# Altium footprint library D 电感.PcbLib: 18 footprints (part 1 of 2)
Each footprint in its own frame and in the unit in brackets; x right, y up, seen from the top. Pads: shape width x height; smd on the part's side, far side on the other; paste and mask are expansions set on the pad; w line width, h text height; cw(c..) or ccw(c..) is an arc to the next point about the centre after c.
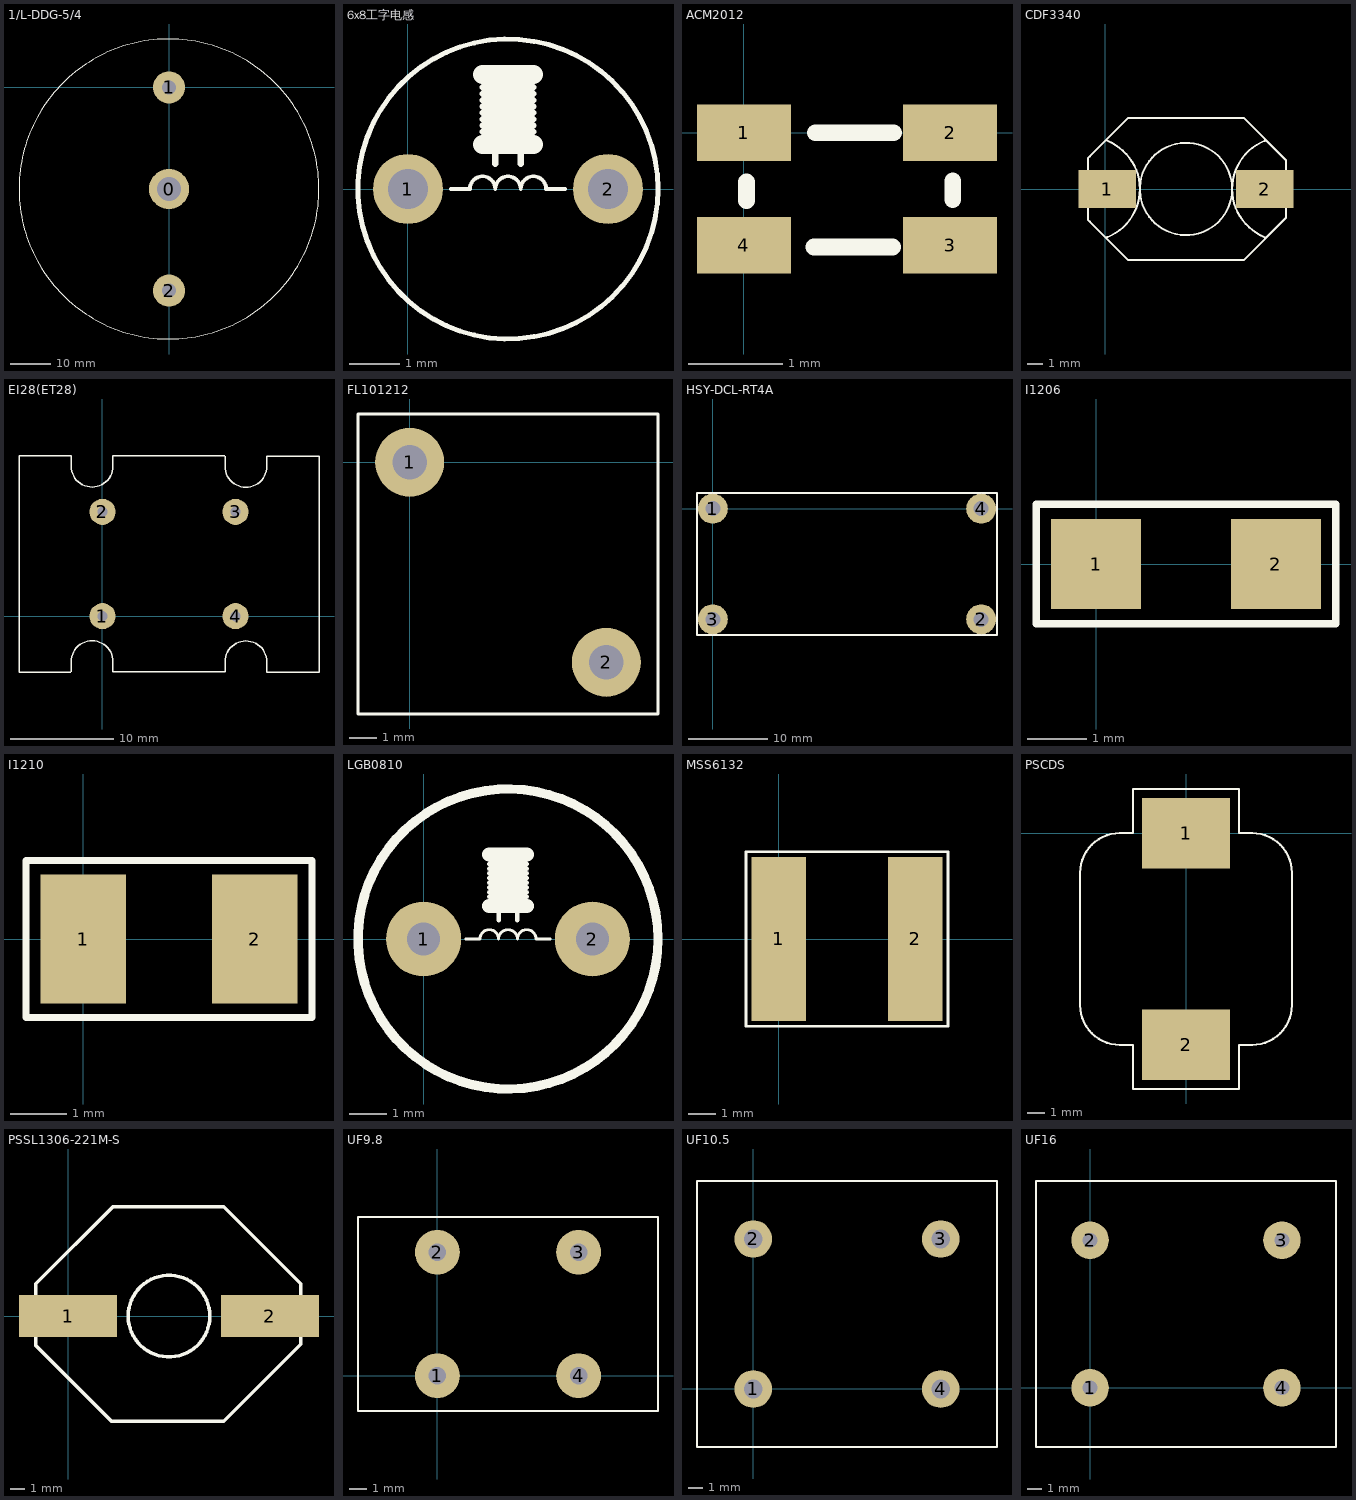
[diagram p0: the footprints below, top view; thin cyan lines are the x and y axes]

## 1/L-DDG-5/4 [mm] "4MH/5A"
pads (3):
  round 10 hole 6: 0(0,-25.4)
  round 8 hole 3.5: 1(0,0) 2(0,-50.8)
Top Overlay:
  circle w0.254: c0,-25.4 r37.5

## 6x8工字电感 [mm]
height 8
pads (2):
  round 1.4 hole 0.8: 1(0,0) 2(4,0)
Top Overlay:
  circle w0.1: c2,0 r3
  lines w0.076: 0.857,0 1.238,0 cw(c1.492,0) 1.746,0 cw(c2,0) 2.254,0 cw(c2.508,0) 2.762,0 3.143,0
  lines w0.127: 1.492,1.143 2.508,1.143 ; 1.492,1.27 2.508,1.27 ; 1.492,1.397 2.508,1.397 ; 1.492,1.524 2.508,1.524 ; 1.492,1.651 2.508,1.651 ; 1.492,1.778 2.508,1.778 ; 1.492,1.905 2.508,1.905 ; 1.492,2.032 2.508,2.032 ; 1.746,0.508 1.746,0.889 ; 2.254,0.508 2.254,0.889
  lines w0.381: 1.492,0.889 2.508,0.889 ; 1.492,2.286 2.508,2.286 ; 2,0.889 2,2.286

## ACM2012 [mm]
pads (4):
  rect 1x0.6 smd: 1(0,0) 2(2.2,0) 3(2.2,-1.2) 4(0,-1.2)
Top Overlay:
  lines w0.178: 0.027,-0.727 0.027,-0.523 ; 0.746,-1.219 1.584,-1.219 ; 0.762,0 1.6,0 ; 2.227,-0.714 2.227,-0.511

## CDF3340 [mm]
pads (2):
  rect 3.8x2.54 smd: 1(0.127,0) 2(10.541,0)
Top Overlay:
  circle w0.127: c5.334,0 r3.048
  lines w0.127: -1.143,-1.524 -1.143,1.651 ; -1.143,-1.397 -1.143,-2.032 -1.016,-2.159 1.524,-4.699 9.144,-4.699 11.938,-1.905 11.938,-1.524 11.938,1.524 11.938,1.905 9.144,4.699 1.524,4.699 -1.016,2.159 ; -1.143,1.524 -1.143,2.032 -0.762,2.413 ; 0.107,3.193 cw(c-1.143,0) 0.13,-3.184 ; 10.538,3.184 ccw(c11.811,0) 10.561,-3.193

## EI28(ET28) [mm]
pads (4):
  round 2.54 hole 1: 1(0,0) 2(0,10.16) 3(12.954,10.16) 4(12.954,0)
Top Overlay:
  lines w0.127: -3.074,-5.461 -8.128,-5.461 -8.128,15.621 -3.048,15.621 ; -3.048,-5.435 -3.048,-4.419 cw(c-1.016,-4.419) 1.016,-4.419 1.016,-5.435 11.912,-5.435 11.938,-5.408 11.938,-4.445 cw(c13.97,-4.445) 16.002,-4.445 16.002,-5.461 21.082,-5.461 21.082,15.568 21.056,15.595 16.002,15.595 ; 11.912,15.621 1.016,15.621 ; -3.048,14.605 ccw(c-1.016,14.605) 1.016,14.605 ; -3.048,14.605 -3.048,15.621 ; -3.048,14.605 -3.048,15.621 ; 1.016,14.605 1.016,15.621 ; 1.016,14.605 1.016,15.621 ; 11.938,14.579 ccw(c13.97,14.579) 16.002,14.579 ; 11.938,14.579 11.938,15.595 11.938,14.579 ; 16.002,14.579 16.002,15.595 ; 16.002,14.579 16.002,15.595

## FL101212 [mil] "适用于直插电感脚间距10mm，长12mm，宽12mm"
pads (2):
  round 100 hole 50: 1(0,0) 2(285,-290)
Top Overlay:
  lines w5: -75,68.07 -75,-365 358.07,-365 ; -75,70 360,70 360,-365

## HSY-DCL-RT4A [mm]
height 42
pads (4):
  round 3.8 hole 1.9: 1(0,0) 2(34,-14) 3(0,-14) 4(34,0)
Top Overlay:
  lines w0.254: -2,-16 36,-16 36,2 -2,2 -2,-16

## I1206 [mil]
pads (2):
  rect 60x60 smd: 1(0,0) 2(120,0)
Top Overlay:
  lines w5: -40,-40 160,-40 160,40 -40,40 -40,-40

## I1210 [mil]
pads (2):
  rect 60x90 smd: 1(0,0) 2(120,0)
Top Overlay:
  lines w5: -40,-55 160,-55 160,55 -40,55 -40,-55

## LGB0810 [mil]
pads (2):
  round 80 hole 35: 1(0,0) 2(180,0)
Top Overlay:
  circle w10: c90,0 r160
  lines w3: 45,0 60,0 cw(c70,0) 80,0 cw(c90,0) 100,0 cw(c110,0) 120,0 135,0
  lines w5: 70,45 110,45 ; 70,50 110,50 ; 70,55 110,55 ; 70,60 110,60 ; 70,65 110,65 ; 70,70 110,70 ; 70,75 110,75 ; 70,80 110,80 ; 80,20 80,35 ; 100,20 100,35
  lines w15: 70,35 110,35 ; 70,90 110,90 ; 90,35 90,90

## MSS6132 [mm] "长6.0mm，宽6.0mm，高2.85mm"
pads (2):
  rect 2x6 smd: 1(0,0) 2(5,0)
Top Overlay:
  lines w0.1: -1.2,-3.2 -1.2,3.2 6.2,3.2 6.2,-3.2 -1.2,-3.2

## PSCDS [mil] "武汉力源 电感"
pads (2):
  rect 200x160 smd: 1(0,0) 2(0,-480)
Top Overlay:
  lines w5: -240,-390 ccw(c-150,-390) -150,-480 -120,-480 -120,-580 120,-580 120,-480 150,-480 ccw(c150,-390) 240,-390 240,-90 ccw(c150,-90) 150,0 120,0 120,100 -120,100 -120,0 -150,0 ccw(c-150,-90) -240,-90 -240,-390

## PSSL1306-221M-S [mm]
height 7
pads (2):
  rect 7x3 smd: 1(0,0) 2(14.4,0)
Top Overlay:
  circle w0.254: c7.2,0 r2.912
  lines w0.254: -2.3,-1.2 -2.3,0.9 ; -2.3,-0.308 -2.3,-2.1 3.1,-7.5 11.1,-7.5 16.6,-2 16.6,2.3 11.1,7.8 3.2,7.8 -2.3,2.3 -2.3,0

## UF9.8 [mm]
pads (4):
  round 2.54 hole 1: 1(0,0) 2(0,7) 3(8,7) 4(8,0)
Top Overlay:
  lines w0.127: -4.5,-2 12.5,-2 12.5,9 -4.5,9 -4.5,-2

## UF10.5 [mm]
pads (4):
  round 2.54 hole 1.27: 1(0,0) 2(0,10.16) 3(12.7,10.16) 4(12.7,0)
Top Overlay:
  lines w0.127: -3.81,-3.937 -3.81,14.097 16.51,14.097 16.51,-3.937 -3.81,-3.937

## UF16 [mm]
height 0.635
pads (4):
  round 2.54 hole 1: 1(0,0) 2(0,10) 3(13,10) 4(13,0)
Top Overlay:
  lines w0.127: -3.66,-4.017 -3.66,14.017 16.66,14.017 16.66,-4.017 -3.66,-4.017